# Altium footprint library LT3045.PcbLib: 1 footprints
Each footprint in its own frame and in the unit in brackets; x right, y up, seen from the top. Pads: shape width x height; smd on the part's side, far side on the other; paste and mask are expansions set on the pad; w line width, h text height; cw(c..) or ccw(c..) is an arc to the next point about the centre after c.
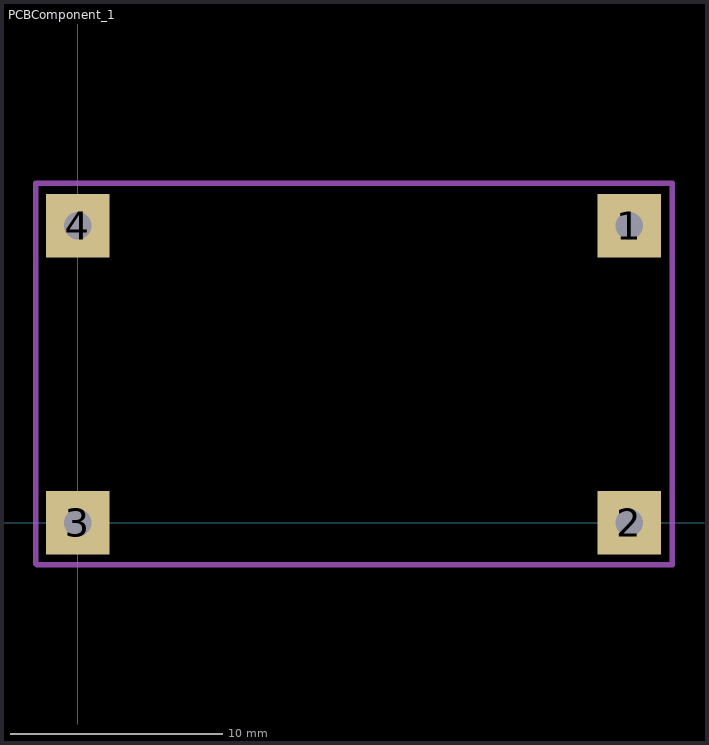
[diagram p0: the footprint, top view; thin cyan lines are the x and y axes]

## PCBComponent_1 [mm]
pads (4):
  rect 3x3 hole 1.3: 1(26,14) 2(26,0) 3(0,0) 4(0,14)
Mechanical 1:
  lines w0.254: -1.979,-1.921 -1.979,16.01 28.021,16.01 28.021,-1.979 -1.921,-1.979 -1.979,-1.921